# EAGLE library part SLG46200 (library GREENPAK)
GreenPAK1 SLG46200 Silego Technology www.silego.com
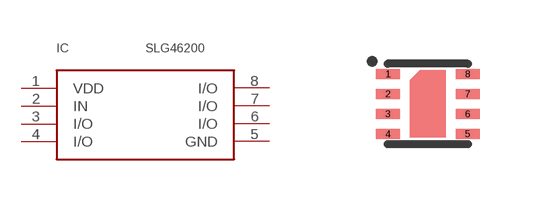
[diagram p0: symbol with the pads of TDFN-8; footprint TDFN-8]

Designator prefix IC

## SLG46200  [TDFN-8]
1  VDD  pwr
2  IN  in
3  I/O
4  I/O
5  GND
6  I/O
7  I/O
8  I/O

## Footprint TDFN-8 (pad centres in mm)
8 Lead TDFN Package 2mm x 2mm
smd 0.6 x 0.25: 1 -1.004,0.709; 2 -1.004,0.21; 3 -1.005,-0.29; 4 -1.005,-0.793; 5 0.992,-0.79; 6 0.992,-0.292; 7 0.993,0.21; 8 0.992,0.71